# EAGLE library part MEGA1284P (library 1284p)
Atmel ATmega1284P 8-bit AVR Microcontroller
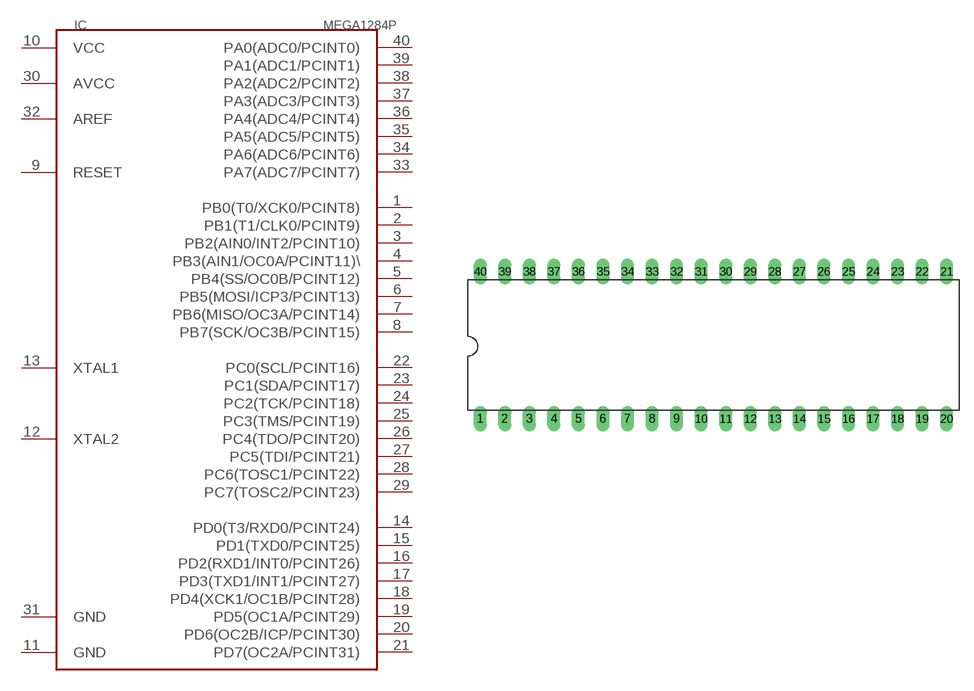
[diagram p0: symbol with the pads of DIL40; footprint DIL40]

Designator prefix IC

## MEGA1284P  [DIL40]
1  PB0(T0/XCK0/PCINT8)
2  PB1(T1/CLK0/PCINT9)
3  PB2(AIN0/INT2/PCINT10)
4  PB3(AIN1/OC0A/PCINT11)\
5  PB4(SS/OC0B/PCINT12)
6  PB5(MOSI/ICP3/PCINT13)
7  PB6(MISO/OC3A/PCINT14)
8  PB7(SCK/OC3B/PCINT15)
9  RESET
10  VCC
11  GND
12  XTAL2
13  XTAL1
14  PD0(T3/RXD0/PCINT24)
15  PD1(TXD0/PCINT25)
16  PD2(RXD1/INT0/PCINT26)
17  PD3(TXD1/INT1/PCINT27)
18  PD4(XCK1/OC1B/PCINT28)
19  PD5(OC1A/PCINT29)
20  PD6(OC2B/ICP/PCINT30)
21  PD7(OC2A/PCINT31)
22  PC0(SCL/PCINT16)
23  PC1(SDA/PCINT17)
24  PC2(TCK/PCINT18)
25  PC3(TMS/PCINT19)
26  PC4(TDO/PCINT20)
27  PC5(TDI/PCINT21)
28  PC6(TOSC1/PCINT22)
29  PC7(TOSC2/PCINT23)
30  AVCC
31  GND
32  AREF
33  PA7(ADC7/PCINT7)
34  PA6(ADC6/PCINT6)
35  PA5(ADC5/PCINT5)
36  PA4(ADC4/PCINT4)
37  PA3(ADC3/PCINT3)
38  PA2(ADC2/PCINT2)
39  PA1(ADC1/PCINT1)
40  PA0(ADC0/PCINT0)

## Footprint DIL40 (pad centres in mm)
Dual In Line Package
drill 0.813 long: 1 -24.13,-7.62; 2 -21.59,-7.62; 3 -19.05,-7.62; 4 -16.51,-7.62; 5 -13.97,-7.62; 6 -11.43,-7.62; 7 -8.89,-7.62; 8 -6.35,-7.62; 9 -3.81,-7.62; 10 -1.27,-7.62; 11 1.27,-7.62; 12 3.81,-7.62; 13 6.35,-7.62; 14 8.89,-7.62; 15 11.43,-7.62; 16 13.97,-7.62; 17 16.51,-7.62; 18 19.05,-7.62; 19 21.59,-7.62; 20 24.13,-7.62; 21 24.13,7.62; 22 21.59,7.62; 23 19.05,7.62; 24 16.51,7.62; 25 13.97,7.62; 26 11.43,7.62; 27 8.89,7.62; 28 6.35,7.62; 29 3.81,7.62; 30 1.27,7.62; 31 -1.27,7.62; 32 -3.81,7.62; 33 -6.35,7.62; 34 -8.89,7.62; 35 -11.43,7.62; 36 -13.97,7.62; 37 -16.51,7.62; 38 -19.05,7.62; 39 -21.59,7.62; 40 -24.13,7.62